# Altium schematic symbol library KT315 KT361.SchLib: 109 symbols (part 2 of 2)
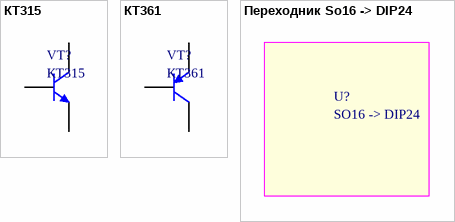
[diagram p4: symbols КТ315 to Переходник So16 -> DIP24]

## КТ361
designator VT?
PNP General Purpose Amplifier; Разработчик: Сергеев Е. М.; Name: КТ361
footprint Tranzistor KT315 KT361
footprint Tranzistor SMD KT315 KT361
pins: 1 B, 2 C, 3 E

## Переходник So16 -> DIP24
designator U?, comment SO16 -> DIP24
Разработчик: Сергеев
footprint DIP24W-600 - SOIC16M (DIP; 24 Leads; Row Spacing 15.24 mm; Pitch 2.54 mm)
pins: 1 hidden, 2 hidden, 3 hidden, 4 hidden, 5 hidden, 6 hidden, 7 hidden, 8 hidden, 9 hidden, 10 hidden, 11 hidden, 12 hidden, 13 hidden, 14 hidden, 15 hidden, 16 hidden, 17 hidden, 18 hidden, 19 hidden, 20 hidden, 21 hidden, 22 hidden, 23 hidden, 24 hidden